# Altium schematic symbol library 885012206074.SchLib: 1 symbol
Pins are listed as number, name and electrical type; pins without a type are passive.

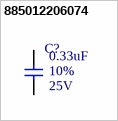
[diagram p0: symbol 885012206074]

## 885012206074
designator C?  Rated Voltage: 25V  Tolerance: 10%  Capacitence: 0.33uF  (hidden comment: 885012206074)
CAP CER 0.33UF 25V X7R 0603; MFR: Würth Elektronik; PN: 885012206074; ComponentLink1Description: Datasheet; ComponentLink1URL: https://www.we-online.de/katalog/datasheet/885012206074.pdf; Temperature Coefficient: X7R; Package: 0603; Footprint: C0603; Supplier 1: Digi-Key; Supplier Part Number 1: 732-7992-1-ND
footprint C0603 (Generic C0603 Footprint)
pins: 1, 2